# Altium schematic symbol library Sim Card Holder MOLEX 78646-3001.Schlib: 1 symbol
Pins are listed as number, name and electrical type; pins without a type are passive.

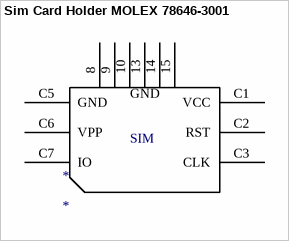
[diagram p0: symbol Sim Card Holder MOLEX 78646-3001]

## Sim Card Holder MOLEX 78646-3001
designator *
SIM Card 6 connector SMD Card Sockets Connectors RoHS; ComponentLink1Description: LCSC - MOLEX 78646-3001; ComponentLink1URL: https://lcsc.com/product-detail/Card-Sockets-Connectors_MOLEX-78646-3001_C194938.html; LCSC Part #: C194938; JLCPCB Part Type: Extended
footprint MOLEX 78646-3001
pins: 8 GND, 9 GND, 10 GND, 13 GND, 14 GND, 15 GND, C1 VCC, C2 RST, C3 CLK, C5 GND, C6 VPP, C7 IO
text: SIM